# Altium footprint library Connector_PinSocket_2.00mm.PcbLib: 278 footprints (part 1 of 18)
Each footprint in its own frame and in the unit in brackets; x right, y up, seen from the top. Pads: shape width x height; smd on the part's side, far side on the other; paste and mask are expansions set on the pad; w line width, h text height; cw(c..) or ccw(c..) is an arc to the next point about the centre after c.
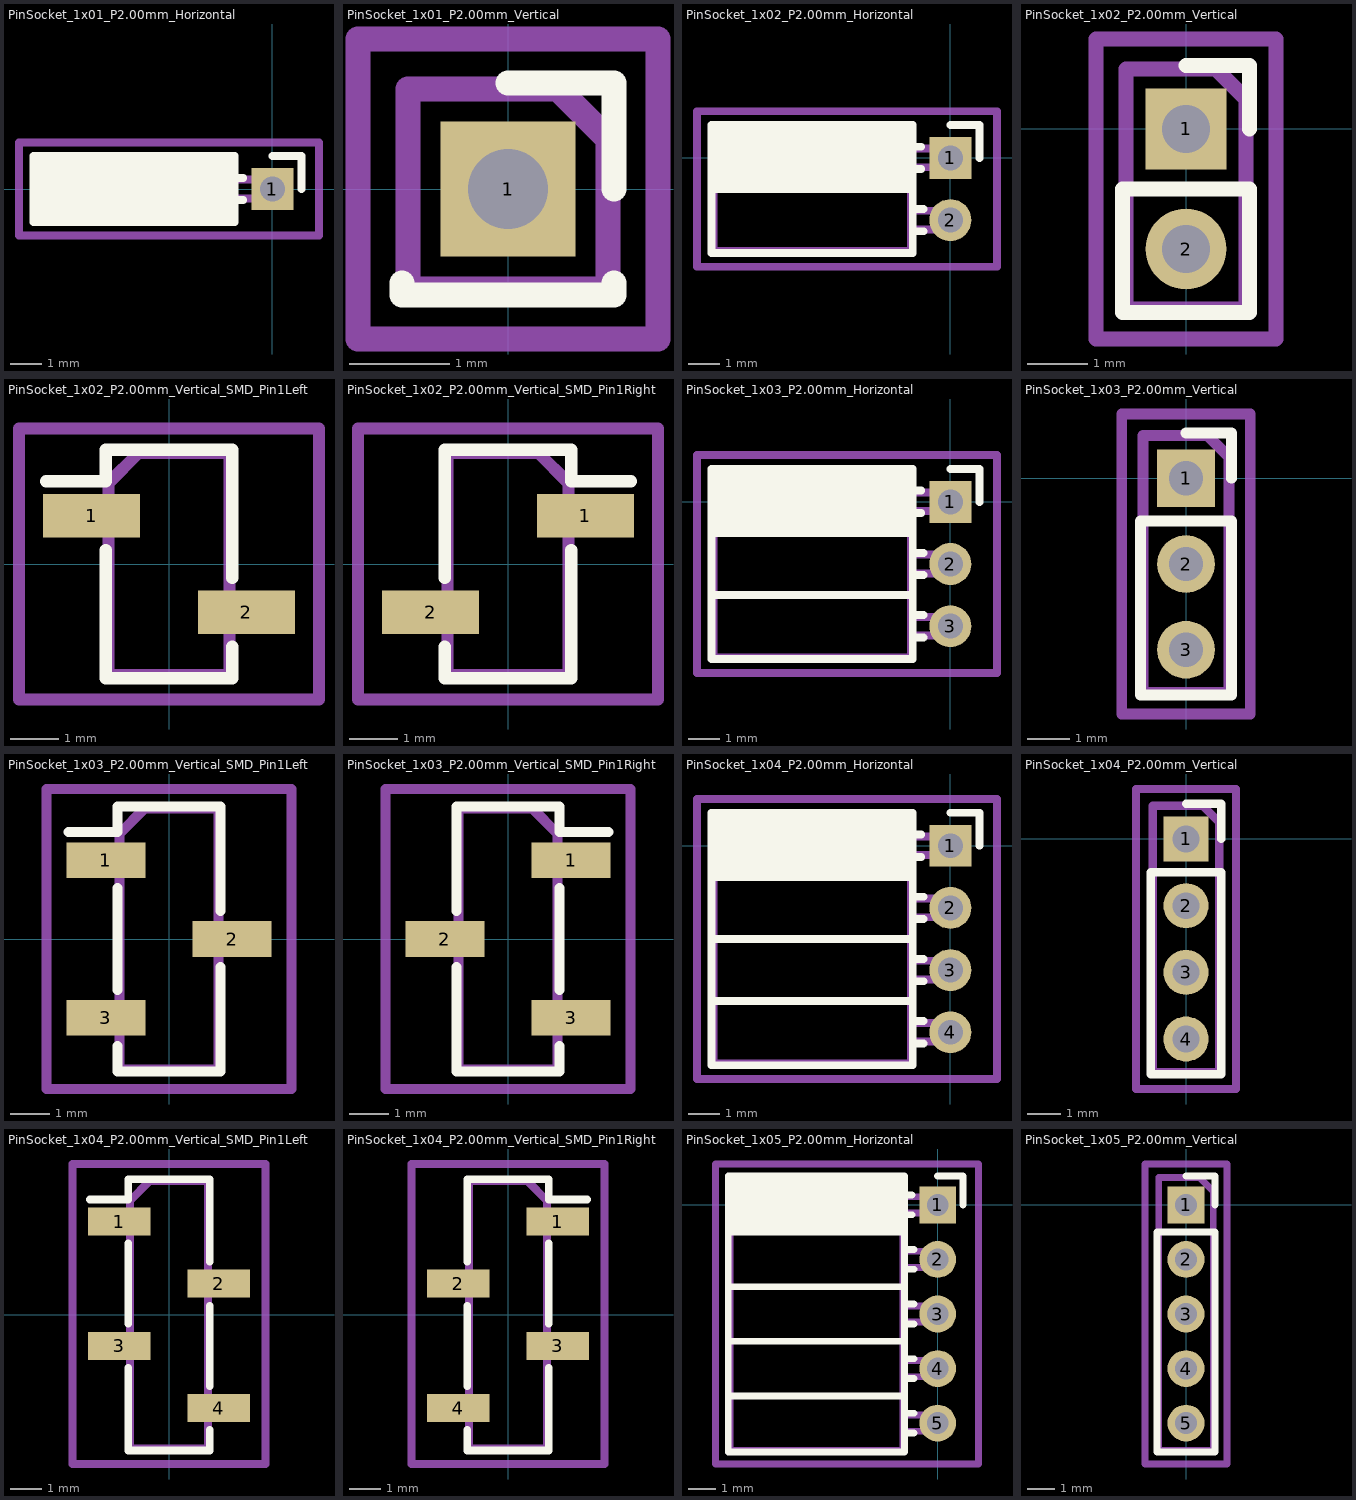
[diagram p0: the footprints below, top view; thin cyan lines are the x and y axes]

## PinSocket_1x01_P2.00mm_Horizontal [mm]
pads (1):
  rect 1.35x1.35 hole 0.8: 1(0,0)
F.SilkS:
  lines w0.254: -7.68,-0.942 -1.21,-0.942 ; -7.68,-0.825 -1.21,-0.825 ; -7.68,-0.707 -1.21,-0.707 ; -7.68,-0.589 -1.21,-0.589 ; -7.68,-0.472 -1.21,-0.472 ; -7.68,-0.354 -1.21,-0.354 ; -7.68,-0.236 -1.21,-0.236 ; -7.68,-0.119 -1.21,-0.119 ; -7.68,-0.001 -1.21,-0.001 ; -7.68,0.116 -1.21,0.116 ; -7.68,0.234 -1.21,0.234 ; -7.68,0.352 -1.21,0.352 ; -7.68,0.469 -1.21,0.469 ; -7.68,0.587 -1.21,0.587 ; -7.68,0.705 -1.21,0.705 ; -7.68,0.822 -1.21,0.822 ; -7.68,0.94 -1.21,0.94 ; -1.21,-0.36 -0.935,-0.36 ; -1.21,0.36 -0.935,0.36 ; 0,1.06 0.935,1.06 0.935,0 ; -7.68,-1.06 -7.68,1.06 -1.21,1.06 -1.21,-1.06 -7.68,-1.06
Top Assembly:
  lines w0.254: -1.27,-0.3 0,-0.3 0,0.3 -1.27,0.3 ; -7.62,-1 -7.62,1 -1.77,1 -1.27,0.5 -1.27,-1 -7.62,-1
  text "'.Designator'" at -8.492,-0.84 h1
Top Courtyard:
  lines w0.254: -8.15,-1.5 -8.15,1.5 1.5,1.5 1.5,-1.5 -8.15,-1.5
Top Designator:
  text ".Designator" at -11.125,-0.508 h1.52

## PinSocket_1x01_P2.00mm_Vertical [mm]
pads (1):
  rect 1.35x1.35 hole 0.8: 1(0,0)
F.SilkS:
  lines w0.254: -1.06,-0.94 -1.06,-1.06 1.06,-1.06 1.06,-0.94 ; 0,1.06 1.06,1.06 1.06,0
Top Assembly:
  lines w0.254: -1,-1 1,-1 1,0.5 0.5,1 -1,1 -1,-1
  text "'.Designator'" at -4.047,-0.84 h1
Top Courtyard:
  lines w0.254: -1.5,-1.5 1.5,-1.5 1.5,1.5 -1.5,1.5 -1.5,-1.5
Top Designator:
  text ".Designator" at -7.768,-0.508 h1.52

## PinSocket_1x02_P2.00mm_Horizontal [mm]
pads (2):
  rect 1.35x1.35 hole 0.8: 1(0,0)
  round 1.35 hole 0.8: 2(0,-2)
F.SilkS:
  lines w0.254: -7.68,-1 -1.21,-1 ; -7.68,-0.886 -1.21,-0.886 ; -7.68,-0.772 -1.21,-0.772 ; -7.68,-0.658 -1.21,-0.658 ; -7.68,-0.544 -1.21,-0.544 ; -7.68,-0.429 -1.21,-0.429 ; -7.68,-0.315 -1.21,-0.315 ; -7.68,-0.201 -1.21,-0.201 ; -7.68,-0.087 -1.21,-0.087 ; -7.68,0.027 -1.21,0.027 ; -7.68,0.141 -1.21,0.141 ; -7.68,0.255 -1.21,0.255 ; -7.68,0.369 -1.21,0.369 ; -7.68,0.484 -1.21,0.484 ; -7.68,0.598 -1.21,0.598 ; -7.68,0.712 -1.21,0.712 ; -7.68,0.826 -1.21,0.826 ; -7.68,0.94 -1.21,0.94 ; -1.21,-2.36 -0.863,-2.36 ; -1.21,-1.64 -0.863,-1.64 ; -1.21,-0.36 -0.935,-0.36 ; -1.21,0.36 -0.935,0.36 ; 0,1.06 0.935,1.06 0.935,0 ; -7.68,-3.06 -1.21,-3.06 -1.21,1.06 -7.68,1.06 -7.68,-3.06
Top Assembly:
  lines w0.254: -1.27,-2.3 0,-2.3 0,-1.7 -1.27,-1.7 ; -1.27,-0.3 0,-0.3 0,0.3 -1.27,0.3 ; -1.27,0.3 -1.27,-3 -7.62,-3 -7.62,1 -1.97,1 -1.27,0.3
  text "'.Designator'" at -8.492,-1.84 h1
Top Courtyard:
  lines w0.254: -8.15,-3.5 1.5,-3.5 1.5,1.5 -8.15,1.5 -8.15,-3.5
Top Designator:
  text ".Designator" at -11.125,-1.508 h1.52

## PinSocket_1x02_P2.00mm_Vertical [mm]
pads (2):
  rect 1.35x1.35 hole 0.8: 1(0,0)
  round 1.35 hole 0.8: 2(0,-2)
F.SilkS:
  lines w0.254: 0,1.06 1.06,1.06 1.06,0 ; -1.06,-3.06 1.06,-3.06 1.06,-1 -1.06,-1 -1.06,-3.06
Top Assembly:
  lines w0.254: -1,-3 1,-3 1,0.5 0.5,1 -1,1 -1,-3
  text "'.Designator'" at 0.84,-5.047 h1
Top Courtyard:
  lines w0.254: -1.5,-3.5 1.5,-3.5 1.5,1.5 -1.5,1.5 -1.5,-3.5
Top Designator:
  text ".Designator" at -7.618,-1.658 h1.52

## PinSocket_1x02_P2.00mm_Vertical_SMD_Pin1Left [mm]
pads (2):
  rect 2x0.9 smd: 1(-1.6,1) 2(1.6,-1)
F.SilkS:
  lines w0.254: -2.54,1.71 -1.31,1.71 -1.31,2.36 1.31,2.36 1.31,-0.29 ; -1.31,0.29 -1.31,-2.36 1.31,-2.36 1.31,-1.71
Top Assembly:
  lines w0.254: -1.25,0.75 -2.1,0.75 -2.1,1.25 -1.25,1.25 ; 1.25,-1.25 2.1,-1.25 2.1,-0.75 1.25,-0.75 ; -1.25,-2.3 1.25,-2.3 1.25,2.3 -0.625,2.3 -1.25,1.675 -1.25,-2.3
  text "'.Designator'" at 0.84,-4.047 h1
Top Courtyard:
  lines w0.254: -3.1,-2.8 3.1,-2.8 3.1,2.8 -3.1,2.8 -3.1,-2.8
Top Designator:
  text ".Designator" at -7.618,-0.658 h1.52

## PinSocket_1x02_P2.00mm_Vertical_SMD_Pin1Right [mm]
pads (2):
  rect 2x0.9 smd: 1(1.6,1) 2(-1.6,-1)
F.SilkS:
  lines w0.254: -1.31,-1.71 -1.31,-2.36 1.31,-2.36 1.31,0.29 ; -1.31,-0.29 -1.31,2.36 1.31,2.36 1.31,1.71 2.54,1.71
Top Assembly:
  lines w0.254: -1.25,-1.25 -2.1,-1.25 -2.1,-0.75 -1.25,-0.75 ; 1.25,0.75 2.1,0.75 2.1,1.25 1.25,1.25 ; -1.25,-2.3 1.25,-2.3 1.25,1.675 0.625,2.3 -1.25,2.3 -1.25,-2.3
  text "'.Designator'" at 0.84,-4.047 h1
Top Courtyard:
  lines w0.254: -3.1,-2.8 3.1,-2.8 3.1,2.8 -3.1,2.8 -3.1,-2.8
Top Designator:
  text ".Designator" at -7.618,-0.658 h1.52

## PinSocket_1x03_P2.00mm_Horizontal [mm]
pads (3):
  rect 1.35x1.35 hole 0.8: 1(0,0)
  round 1.35 hole 0.8: 2(0,-2) 3(0,-4)
F.SilkS:
  lines w0.254: -7.68,-3 -1.21,-3 ; -7.68,-1 -1.21,-1 ; -7.68,-0.886 -1.21,-0.886 ; -7.68,-0.772 -1.21,-0.772 ; -7.68,-0.658 -1.21,-0.658 ; -7.68,-0.544 -1.21,-0.544 ; -7.68,-0.429 -1.21,-0.429 ; -7.68,-0.315 -1.21,-0.315 ; -7.68,-0.201 -1.21,-0.201 ; -7.68,-0.087 -1.21,-0.087 ; -7.68,0.027 -1.21,0.027 ; -7.68,0.141 -1.21,0.141 ; -7.68,0.255 -1.21,0.255 ; -7.68,0.369 -1.21,0.369 ; -7.68,0.484 -1.21,0.484 ; -7.68,0.598 -1.21,0.598 ; -7.68,0.712 -1.21,0.712 ; -7.68,0.826 -1.21,0.826 ; -7.68,0.94 -1.21,0.94 ; -1.21,-4.36 -0.863,-4.36 ; -1.21,-3.64 -0.863,-3.64 ; -1.21,-2.36 -0.863,-2.36 ; -1.21,-1.64 -0.863,-1.64 ; -1.21,-0.36 -0.935,-0.36 ; -1.21,0.36 -0.935,0.36 ; 0,1.06 0.935,1.06 0.935,0 ; -7.68,-5.06 -1.21,-5.06 -1.21,1.06 -7.68,1.06 -7.68,-5.06
Top Assembly:
  lines w0.254: -1.27,-4.3 0,-4.3 0,-3.7 -1.27,-3.7 ; -1.27,-2.3 0,-2.3 0,-1.7 -1.27,-1.7 ; -1.27,-0.3 0,-0.3 0,0.3 -1.27,0.3 ; -1.27,0.3 -1.27,-5 -7.62,-5 -7.62,1 -1.97,1 -1.27,0.3
  text "'.Designator'" at -8.492,-2.84 h1
Top Courtyard:
  lines w0.254: -8.15,-5.5 1.5,-5.5 1.5,1.5 -8.15,1.5 -8.15,-5.5
Top Designator:
  text ".Designator" at -11.125,-2.508 h1.52

## PinSocket_1x03_P2.00mm_Vertical [mm]
pads (3):
  rect 1.35x1.35 hole 0.8: 1(0,0)
  round 1.35 hole 0.8: 2(0,-2) 3(0,-4)
F.SilkS:
  lines w0.254: 0,1.06 1.06,1.06 1.06,0 ; -1.06,-5.06 1.06,-5.06 1.06,-1 -1.06,-1 -1.06,-5.06
Top Assembly:
  lines w0.254: -1,-5 1,-5 1,0.5 0.5,1 -1,1 -1,-5
  text "'.Designator'" at 0.84,-6.047 h1
Top Courtyard:
  lines w0.254: -1.5,-5.5 1.5,-5.5 1.5,1.5 -1.5,1.5 -1.5,-5.5
Top Designator:
  text ".Designator" at -7.618,-2.658 h1.52

## PinSocket_1x03_P2.00mm_Vertical_SMD_Pin1Left [mm]
pads (3):
  rect 2x0.9 smd: 1(-1.6,2) 2(1.6,0) 3(-1.6,-2)
F.SilkS:
  lines w0.254: -2.54,2.71 -1.31,2.71 -1.31,3.36 1.31,3.36 1.31,0.71 ; -1.31,-2.71 -1.31,-3.36 1.31,-3.36 1.31,-0.71 ; -1.31,-1.29 -1.31,1.29
Top Assembly:
  lines w0.254: -1.25,-2.25 -2.1,-2.25 -2.1,-1.75 -1.25,-1.75 ; -1.25,1.75 -2.1,1.75 -2.1,2.25 -1.25,2.25 ; 1.25,-0.25 2.1,-0.25 2.1,0.25 1.25,0.25 ; -1.25,-3.3 1.25,-3.3 1.25,3.3 -0.625,3.3 -1.25,2.675 -1.25,-3.3
  text "'.Designator'" at 0.84,-4.047 h1
Top Courtyard:
  lines w0.254: -3.1,-3.8 3.1,-3.8 3.1,3.8 -3.1,3.8 -3.1,-3.8
Top Designator:
  text ".Designator" at -7.618,-0.643 h1.52

## PinSocket_1x03_P2.00mm_Vertical_SMD_Pin1Right [mm]
pads (3):
  rect 2x0.9 smd: 1(1.6,2) 2(-1.6,0) 3(1.6,-2)
F.SilkS:
  lines w0.254: -1.31,-0.71 -1.31,-3.36 1.31,-3.36 1.31,-2.71 ; -1.31,0.71 -1.31,3.36 1.31,3.36 1.31,2.71 2.54,2.71 ; 1.31,-1.29 1.31,1.29
Top Assembly:
  lines w0.254: -1.25,-0.25 -2.1,-0.25 -2.1,0.25 -1.25,0.25 ; 1.25,-2.25 2.1,-2.25 2.1,-1.75 1.25,-1.75 ; 1.25,1.75 2.1,1.75 2.1,2.25 1.25,2.25 ; -1.25,-3.3 1.25,-3.3 1.25,2.675 0.625,3.3 -1.25,3.3 -1.25,-3.3
  text "'.Designator'" at 0.84,-4.047 h1
Top Courtyard:
  lines w0.254: -3.1,-3.8 3.1,-3.8 3.1,3.8 -3.1,3.8 -3.1,-3.8
Top Designator:
  text ".Designator" at -7.618,-0.643 h1.52

## PinSocket_1x04_P2.00mm_Horizontal [mm]
pads (4):
  rect 1.35x1.35 hole 0.8: 1(0,0)
  round 1.35 hole 0.8: 2(0,-2) 3(0,-4) 4(0,-6)
F.SilkS:
  lines w0.254: -7.68,-5 -1.21,-5 ; -7.68,-3 -1.21,-3 ; -7.68,-1 -1.21,-1 ; -7.68,-0.886 -1.21,-0.886 ; -7.68,-0.772 -1.21,-0.772 ; -7.68,-0.658 -1.21,-0.658 ; -7.68,-0.544 -1.21,-0.544 ; -7.68,-0.429 -1.21,-0.429 ; -7.68,-0.315 -1.21,-0.315 ; -7.68,-0.201 -1.21,-0.201 ; -7.68,-0.087 -1.21,-0.087 ; -7.68,0.027 -1.21,0.027 ; -7.68,0.141 -1.21,0.141 ; -7.68,0.255 -1.21,0.255 ; -7.68,0.369 -1.21,0.369 ; -7.68,0.484 -1.21,0.484 ; -7.68,0.598 -1.21,0.598 ; -7.68,0.712 -1.21,0.712 ; -7.68,0.826 -1.21,0.826 ; -7.68,0.94 -1.21,0.94 ; -1.21,-6.36 -0.863,-6.36 ; -1.21,-5.64 -0.863,-5.64 ; -1.21,-4.36 -0.863,-4.36 ; -1.21,-3.64 -0.863,-3.64 ; -1.21,-2.36 -0.863,-2.36 ; -1.21,-1.64 -0.863,-1.64 ; -1.21,-0.36 -0.935,-0.36 ; -1.21,0.36 -0.935,0.36 ; 0,1.06 0.935,1.06 0.935,0 ; -7.68,-7.06 -1.21,-7.06 -1.21,1.06 -7.68,1.06 -7.68,-7.06
Top Assembly:
  lines w0.254: -1.27,-6.3 0,-6.3 0,-5.7 -1.27,-5.7 ; -1.27,-4.3 0,-4.3 0,-3.7 -1.27,-3.7 ; -1.27,-2.3 0,-2.3 0,-1.7 -1.27,-1.7 ; -1.27,-0.3 0,-0.3 0,0.3 -1.27,0.3 ; -1.27,0.3 -1.27,-7 -7.62,-7 -7.62,1 -1.97,1 -1.27,0.3
  text "'.Designator'" at -3.605,-7.047 h1
Top Courtyard:
  lines w0.254: -8.15,-7.5 1.5,-7.5 1.5,1.5 -8.15,1.5 -8.15,-7.5
Top Designator:
  text ".Designator" at -10.943,-3.508 h1.52

## PinSocket_1x04_P2.00mm_Vertical [mm]
pads (4):
  rect 1.35x1.35 hole 0.8: 1(0,0)
  round 1.35 hole 0.8: 2(0,-2) 3(0,-4) 4(0,-6)
F.SilkS:
  lines w0.254: 0,1.06 1.06,1.06 1.06,0 ; -1.06,-7.06 1.06,-7.06 1.06,-1 -1.06,-1 -1.06,-7.06
Top Assembly:
  lines w0.254: -1,-7 1,-7 1,0.5 0.5,1 -1,1 -1,-7
  text "'.Designator'" at 0.84,-7.047 h1
Top Courtyard:
  lines w0.254: -1.5,-7.5 1.5,-7.5 1.5,1.5 -1.5,1.5 -1.5,-7.5
Top Designator:
  text ".Designator" at -7.618,-3.508 h1.52

## PinSocket_1x04_P2.00mm_Vertical_SMD_Pin1Left [mm]
pads (4):
  rect 2x0.9 smd: 1(-1.6,3) 2(1.6,1) 3(-1.6,-1) 4(1.6,-3)
F.SilkS:
  lines w0.254: -2.54,3.71 -1.31,3.71 -1.31,4.36 1.31,4.36 1.31,1.71 ; -1.31,-1.71 -1.31,-4.36 1.31,-4.36 1.31,-3.71 ; -1.31,-0.29 -1.31,2.29 ; 1.31,-2.29 1.31,0.29
Top Assembly:
  lines w0.254: -1.25,-1.25 -2.1,-1.25 -2.1,-0.75 -1.25,-0.75 ; -1.25,2.75 -2.1,2.75 -2.1,3.25 -1.25,3.25 ; 1.25,-3.25 2.1,-3.25 2.1,-2.75 1.25,-2.75 ; 1.25,0.75 2.1,0.75 2.1,1.25 1.25,1.25 ; -1.25,-4.3 1.25,-4.3 1.25,4.3 -0.625,4.3 -1.25,3.675 -1.25,-4.3
  text "'.Designator'" at 0.84,-4.047 h1
Top Courtyard:
  lines w0.254: -3.1,-4.8 3.1,-4.8 3.1,4.85 -3.1,4.85 -3.1,-4.8
Top Designator:
  text ".Designator" at -7.618,-0.483 h1.52

## PinSocket_1x04_P2.00mm_Vertical_SMD_Pin1Right [mm]
pads (4):
  rect 2x0.9 smd: 1(1.6,3) 2(-1.6,1) 3(1.6,-1) 4(-1.6,-3)
F.SilkS:
  lines w0.254: -1.31,-3.71 -1.31,-4.36 1.31,-4.36 1.31,-1.71 ; -1.31,-2.29 -1.31,0.29 ; -1.31,1.71 -1.31,4.36 1.31,4.36 1.31,3.71 2.54,3.71 ; 1.31,-0.29 1.31,2.29
Top Assembly:
  lines w0.254: -1.25,-3.25 -2.1,-3.25 -2.1,-2.75 -1.25,-2.75 ; -1.25,0.75 -2.1,0.75 -2.1,1.25 -1.25,1.25 ; 1.25,-1.25 2.1,-1.25 2.1,-0.75 1.25,-0.75 ; 1.25,2.75 2.1,2.75 2.1,3.25 1.25,3.25 ; -1.25,-4.3 1.25,-4.3 1.25,3.675 0.625,4.3 -1.25,4.3 -1.25,-4.3
  text "'.Designator'" at 0.84,-4.047 h1
Top Courtyard:
  lines w0.254: -3.1,-4.8 3.1,-4.8 3.1,4.85 -3.1,4.85 -3.1,-4.8
Top Designator:
  text ".Designator" at -7.618,-0.483 h1.52

## PinSocket_1x05_P2.00mm_Horizontal [mm]
pads (5):
  rect 1.35x1.35 hole 0.8: 1(0,0)
  round 1.35 hole 0.8: 2(0,-2) 3(0,-4) 4(0,-6) 5(0,-8)
F.SilkS:
  lines w0.254: -7.68,-7 -1.21,-7 ; -7.68,-5 -1.21,-5 ; -7.68,-3 -1.21,-3 ; -7.68,-1 -1.21,-1 ; -7.68,-0.886 -1.21,-0.886 ; -7.68,-0.772 -1.21,-0.772 ; -7.68,-0.658 -1.21,-0.658 ; -7.68,-0.544 -1.21,-0.544 ; -7.68,-0.429 -1.21,-0.429 ; -7.68,-0.315 -1.21,-0.315 ; -7.68,-0.201 -1.21,-0.201 ; -7.68,-0.087 -1.21,-0.087 ; -7.68,0.027 -1.21,0.027 ; -7.68,0.141 -1.21,0.141 ; -7.68,0.255 -1.21,0.255 ; -7.68,0.369 -1.21,0.369 ; -7.68,0.484 -1.21,0.484 ; -7.68,0.598 -1.21,0.598 ; -7.68,0.712 -1.21,0.712 ; -7.68,0.826 -1.21,0.826 ; -7.68,0.94 -1.21,0.94 ; -1.21,-8.36 -0.863,-8.36 ; -1.21,-7.64 -0.863,-7.64 ; -1.21,-6.36 -0.863,-6.36 ; -1.21,-5.64 -0.863,-5.64 ; -1.21,-4.36 -0.863,-4.36 ; -1.21,-3.64 -0.863,-3.64 ; -1.21,-2.36 -0.863,-2.36 ; -1.21,-1.64 -0.863,-1.64 ; -1.21,-0.36 -0.935,-0.36 ; -1.21,0.36 -0.935,0.36 ; 0,1.06 0.935,1.06 0.935,0 ; -7.68,-9.06 -1.21,-9.06 -1.21,1.06 -7.68,1.06 -7.68,-9.06
Top Assembly:
  lines w0.254: -1.27,-8.3 0,-8.3 0,-7.7 -1.27,-7.7 ; -1.27,-6.3 0,-6.3 0,-5.7 -1.27,-5.7 ; -1.27,-4.3 0,-4.3 0,-3.7 -1.27,-3.7 ; -1.27,-2.3 0,-2.3 0,-1.7 -1.27,-1.7 ; -1.27,-0.3 0,-0.3 0,0.3 -1.27,0.3 ; -1.27,0.3 -1.27,-9 -7.62,-9 -7.62,1 -1.97,1 -1.27,0.3
  text "'.Designator'" at -3.605,-8.047 h1
Top Courtyard:
  lines w0.254: -8.15,-9.5 1.5,-9.5 1.5,1.5 -8.15,1.5 -8.15,-9.5
Top Designator:
  text ".Designator" at -10.943,-4.508 h1.52

## PinSocket_1x05_P2.00mm_Vertical [mm]
pads (5):
  rect 1.35x1.35 hole 0.8: 1(0,0)
  round 1.35 hole 0.8: 2(0,-2) 3(0,-4) 4(0,-6) 5(0,-8)
F.SilkS:
  lines w0.254: 0,1.06 1.06,1.06 1.06,0 ; -1.06,-9.06 1.06,-9.06 1.06,-1 -1.06,-1 -1.06,-9.06
Top Assembly:
  lines w0.254: -1,-9 1,-9 1,0.5 0.5,1 -1,1 -1,-9
  text "'.Designator'" at 0.84,-8.047 h1
Top Courtyard:
  lines w0.254: -1.5,-9.5 1.5,-9.5 1.5,1.5 -1.5,1.5 -1.5,-9.5
Top Designator:
  text ".Designator" at -7.618,-4.508 h1.52